# Altium footprint library LM7805.PcbLib: 1 footprints
Each footprint in its own frame and in the unit in brackets; x right, y up, seen from the top. Pads: shape width x height; smd on the part's side, far side on the other; paste and mask are expansions set on the pad; w line width, h text height; cw(c..) or ccw(c..) is an arc to the next point about the centre after c.
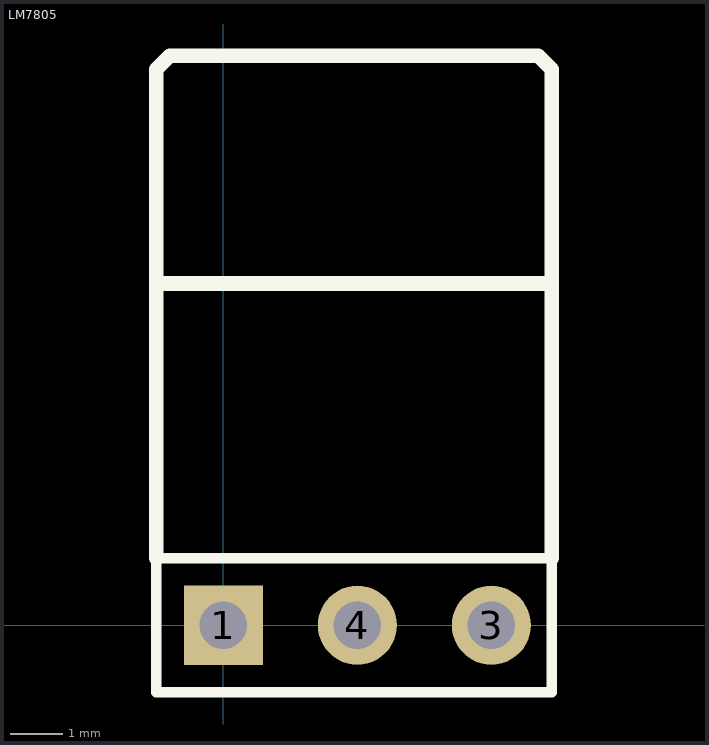
[diagram p0: the footprint, top view; thin cyan lines are the x and y axes]

## LM7805 [mm]
pads (3):
  rect 1.5x1.5 hole 0.9: 1(0,0)
  round 1.5 hole 0.9: 3(5.08,0) 4(2.54,0)
Top Overlay:
  lines w0.2: -1.27,-1.27 6.223,-1.27 6.223,1.27 -1.27,1.27 -1.27,-1.27
  lines w0.278: -1.27,1.27 -1.27,6.477 ; 6.223,1.27 6.223,6.477 ; -1.27,6.477 -1.27,10.541 -1.016,10.795 5.969,10.795 6.223,10.541 6.223,6.477 ; -1.27,6.477 6.223,6.477